# Altium footprint library MLACHP_P.PCBLIB: 129 footprints (part 1 of 9)
Each footprint in its own frame and in the unit in brackets; x right, y up, seen from the top. Pads: shape width x height; smd on the part's side, far side on the other; paste and mask are expansions set on the pad; w line width, h text height; cw(c..) or ccw(c..) is an arc to the next point about the centre after c.
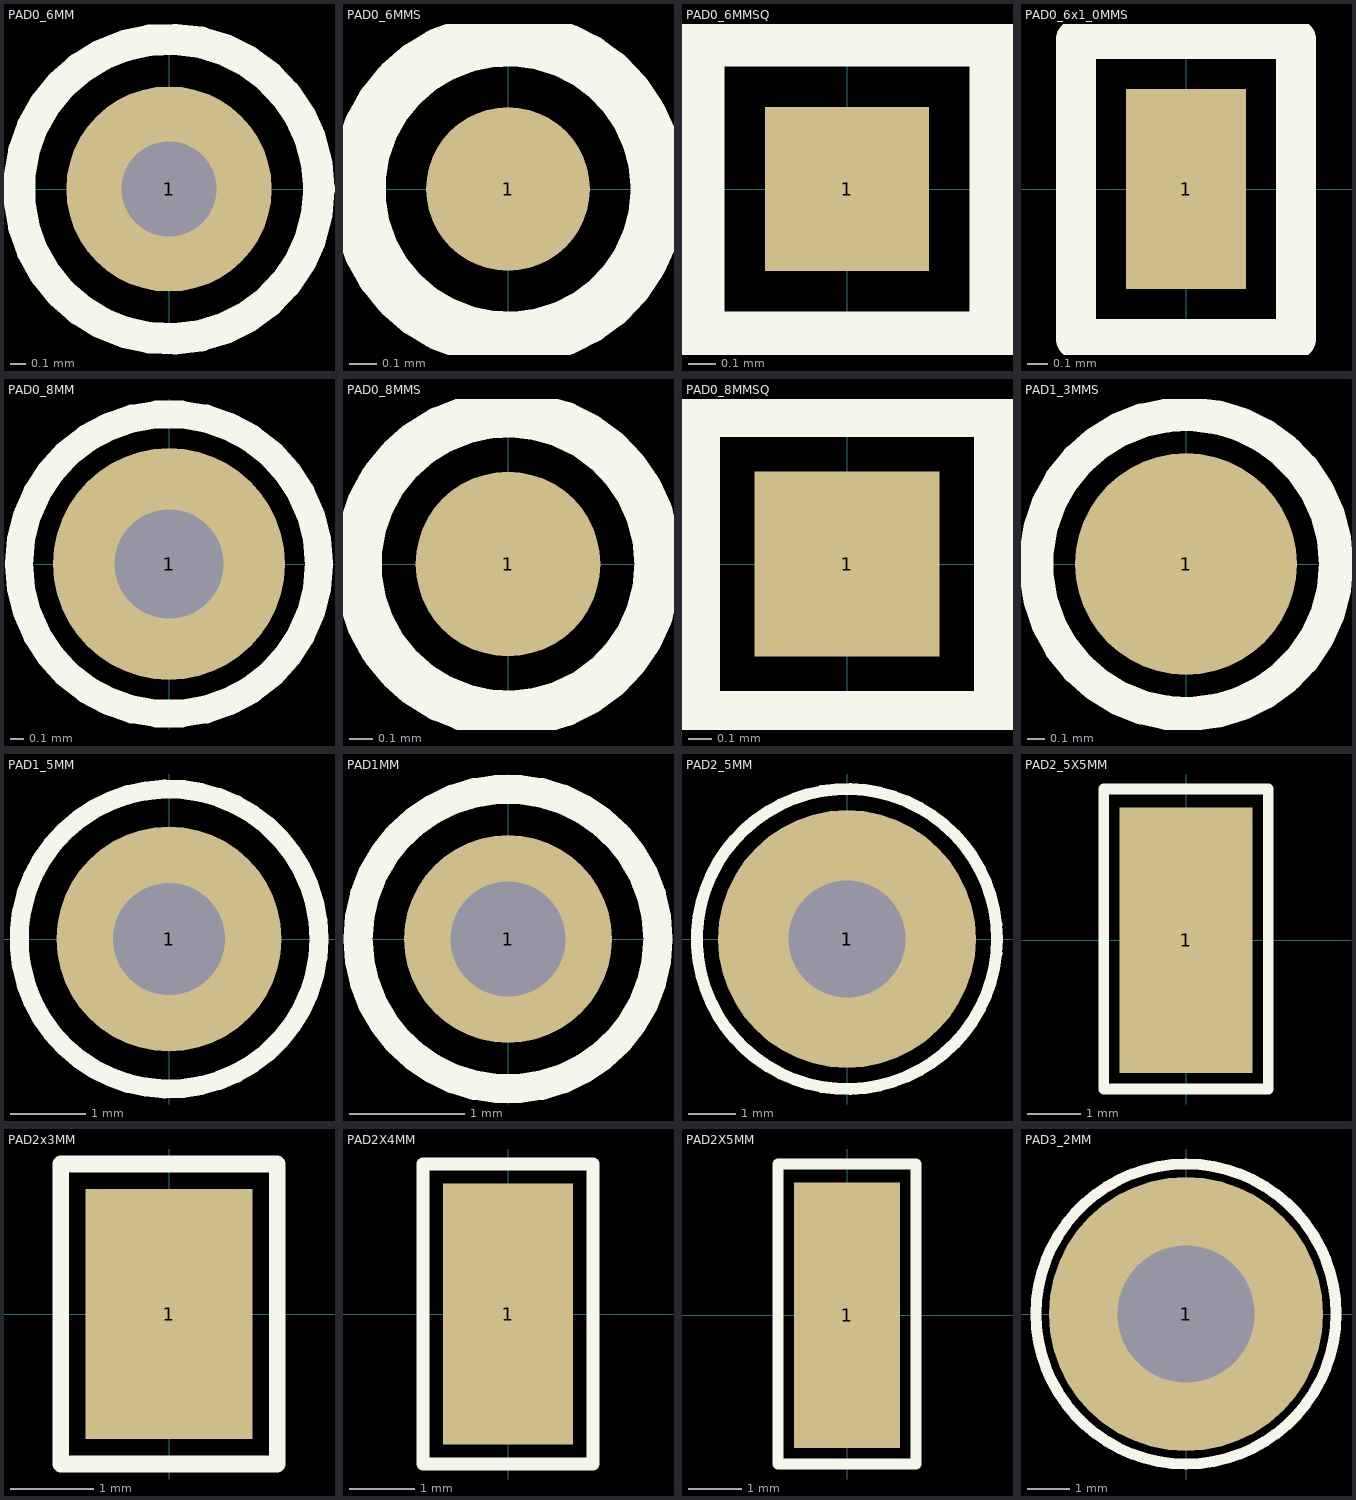
[diagram p0: the footprints below, top view; thin cyan lines are the x and y axes]

## PAD0_6MM [mm]
pads (1):
  round 1.3 hole 0.6: 1(0,0)
TopOverlay:
  circle w0.2: c0,0 r0.95

## PAD0_6MMS [mm]
pads (1):
  round 0.6 smd: 1(0,0)
TopOverlay:
  circle w0.2: c0,0 r0.55

## PAD0_6MMSQ [mm]
pads (1):
  rect 0.6x0.6 smd: 1(0,0)
TopOverlay:
  lines w0.2: -0.55,-0.55 0.55,-0.55 0.55,0.55 -0.55,0.55 -0.55,-0.55

## PAD0_6x1_0MMS [mm]
pads (1):
  rect 0.6x1 smd: 1(0,0)
TopOverlay:
  lines w0.2: -0.55,-0.75 0.55,-0.75 0.55,0.75 -0.55,0.75 -0.55,-0.75

## PAD0_8MM [mm]
pads (1):
  round 1.7 hole 0.8: 1(0,0)
TopOverlay:
  circle w0.203: c0,0 r1.1

## PAD0_8MMS [mm]
pads (1):
  round 0.8 smd: 1(0,0)
TopOverlay:
  circle w0.203: c0,0 r0.65

## PAD0_8MMSQ [mm]
pads (1):
  rect 0.8x0.8 smd: 1(0,0)
TopOverlay:
  lines w0.2: -0.65,-0.65 -0.65,0.65 0.65,0.65 0.65,-0.65 -0.65,-0.65

## PAD1_3MMS [mm]
pads (1):
  round 1.3 smd: 1(0,0)
TopOverlay:
  circle w0.2: c0,0 r0.88

## PAD1_5MM [mm]
pads (1):
  round 3 hole 1.5: 1(0,0)
TopOverlay:
  circle w0.254: c0,0 r2

## PAD1MM [mm]
pads (1):
  round 1.8 hole 1: 1(0,0)
TopOverlay:
  circle w0.254: c0,0 r1.3

## PAD2_5MM [mm]
pads (1):
  round 5.5 hole 2.5: 1(0,0)
TopOverlay:
  circle w0.254: c0,0 r3.2

## PAD2_5X5MM [mm]
pads (1):
  rect 2.5x5 smd: 1(0,0)
TopOverlay:
  lines w0.2: -1.55,-2.8 1.55,-2.8 1.55,2.85 -1.55,2.85 -1.55,-2.8

## PAD2x3MM [mm]
pads (1):
  rect 2x3 smd: 1(0,0)
TopOverlay:
  lines w0.2: -1.3,-1.8 1.3,-1.8 1.3,1.8 -1.3,1.8 -1.3,-1.8

## PAD2X4MM [mm]
pads (1):
  rect 2x4 smd: 1(0,0)
TopOverlay:
  lines w0.2: -1.3,-2.3 1.3,-2.3 1.3,2.3 -1.3,2.3 -1.3,-2.3

## PAD2X5MM [mm]
pads (1):
  rect 2x5 smd: 1(0,0)
TopOverlay:
  lines w0.2: -1.3,-2.8 1.3,-2.8 1.3,2.85 -1.3,2.85 -1.3,-2.8

## PAD3_2MM [mm]
pads (1):
  round 6.4 hole 3.2: 1(0,0)
TopOverlay:
  circle w0.254: c0,0 r3.5